# Altium footprint library HSOP28.PcbLib: 1 footprints
Each footprint in its own frame and in the unit in brackets; x right, y up, seen from the top. Pads: shape width x height; smd on the part's side, far side on the other; paste and mask are expansions set on the pad; w line width, h text height; cw(c..) or ccw(c..) is an arc to the next point about the centre after c.
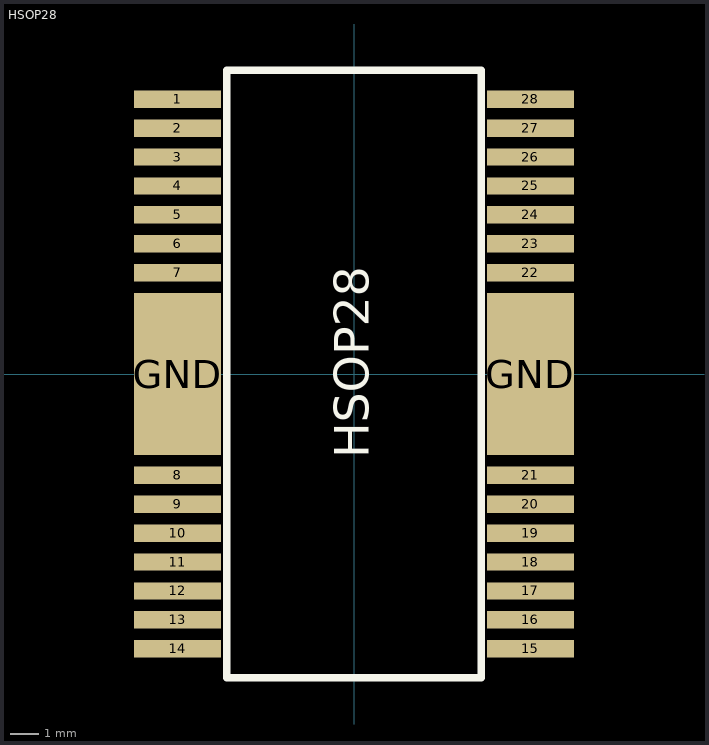
[diagram p0: the footprint, top view; thin cyan lines are the x and y axes]

## HSOP28 [mm]
pads (30):
  rect 3x0.6 smd: 1(-6.1,9.5) 2(-6.1,8.5) 3(-6.1,7.5) 4(-6.1,6.5) 5(-6.1,5.5) 6(-6.1,4.5) 7(-6.1,3.5) 8(-6.1,-3.5) 9(-6.1,-4.5) 10(-6.1,-5.5) 11(-6.1,-6.5) 12(-6.1,-7.5) 13(-6.1,-8.5) 14(-6.1,-9.5) 15(6.1,-9.5) 16(6.1,-8.5) 17(6.1,-7.5) 18(6.1,-6.5) 19(6.1,-5.5) 20(6.1,-4.5) 21(6.1,-3.5) 22(6.1,3.5) 23(6.1,4.5) 24(6.1,5.5) 25(6.1,6.5) 26(6.1,7.5) 27(6.1,8.5) 28(6.1,9.5)
  rect 3x5.6 smd: GND(-6.1,0) GND(6.1,0)
Top Overlay:
  lines w0.254: -4.4,-10.5 4.4,-10.5 4.4,10.5 -4.4,10.5 -4.4,-10.5
  text "HSOP28" at 0.508,-2.921 h1.2
3D body: height 2, standoff 0, extent -4.318,-10.512 4.445,10.385
3D body: height 0.25, standoff 0, extent -4.318,8.128 -4.318,8.128